# Altium integrated library Analog Devices Data Converters Digital-to-Analog Converters.IntLib: 2231 symbols (part 152 of 181)
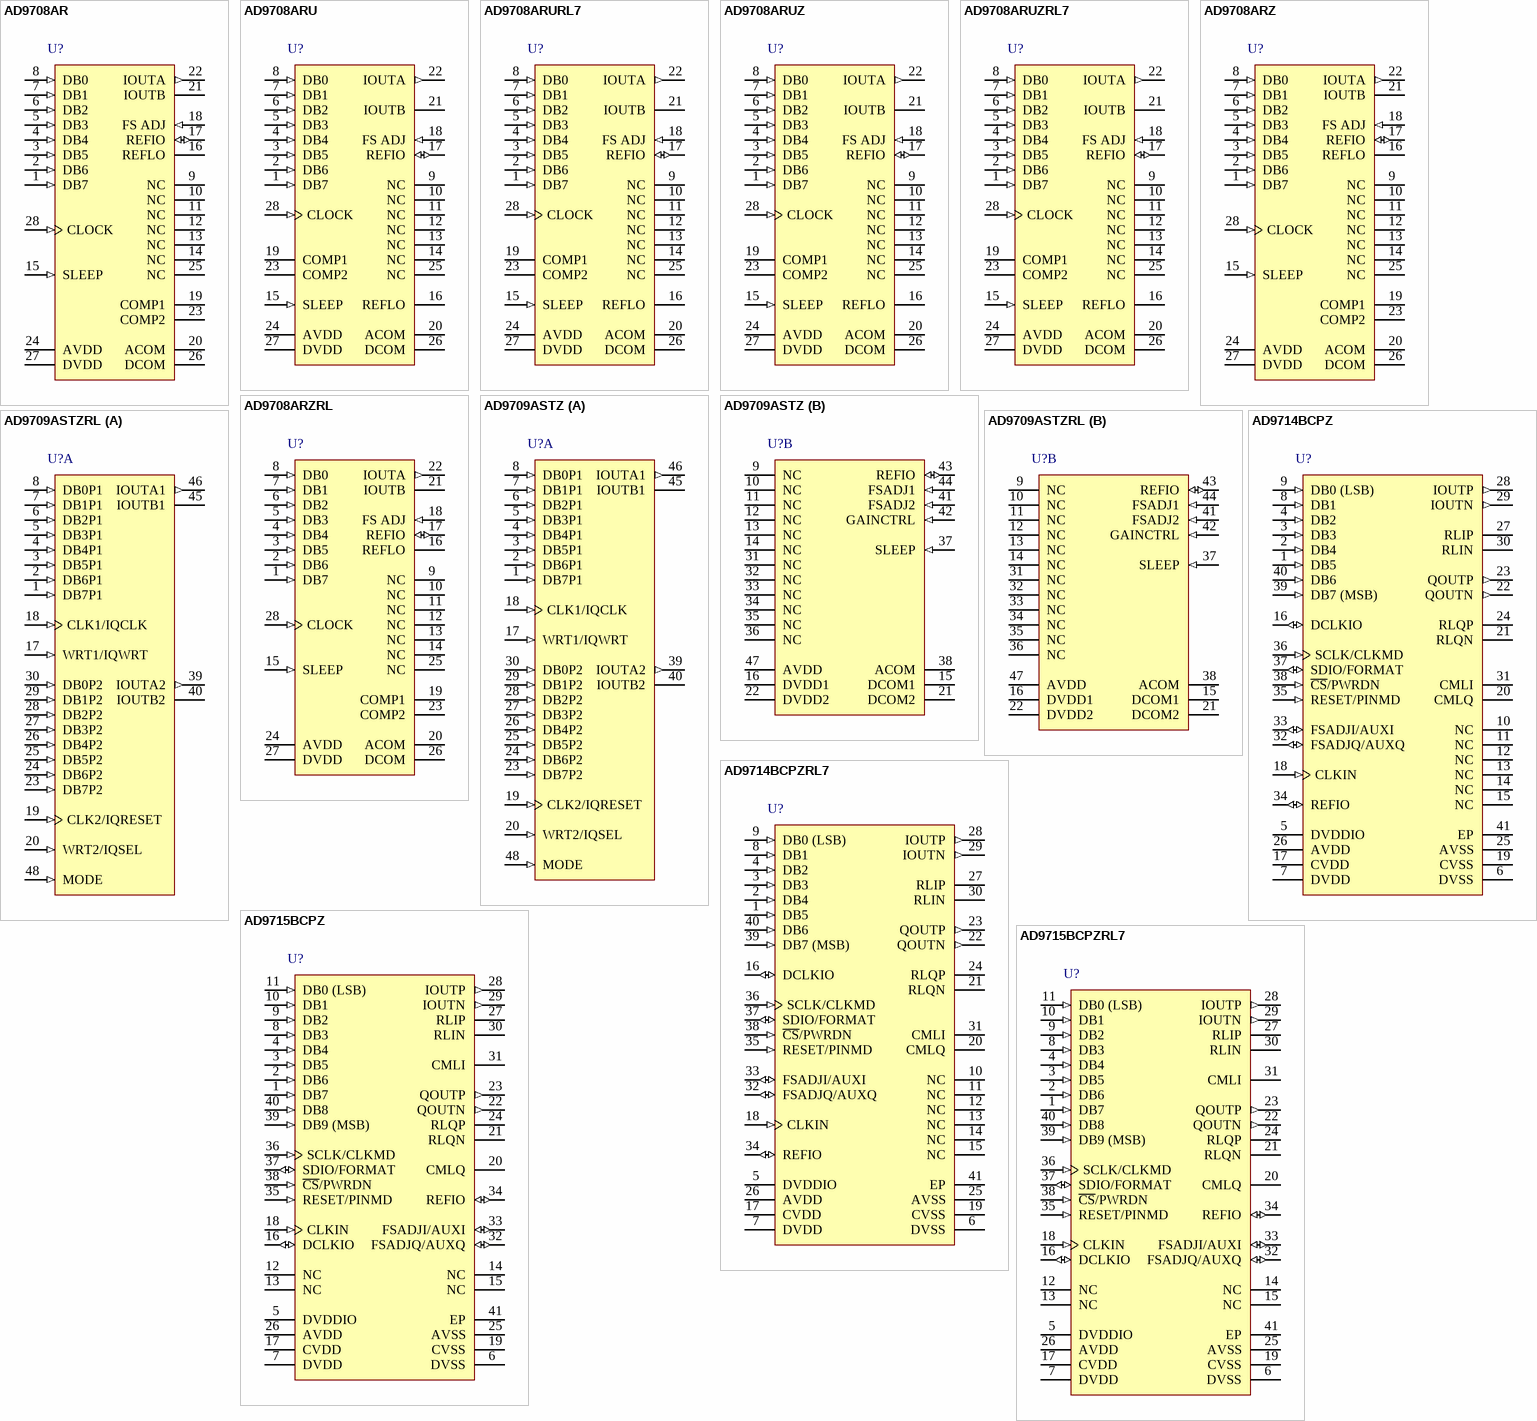
[diagram p265: symbols AD9708AR to AD9715BCPZRL7]

## AD9708ARU
designator U?
Single 8-Bit TxDAC, 100 Msps, -40 to +85 degC, RU-28, Tube; Generic Part Number: AD9708; Manufacturer: Analog Devices; PartNumber: AD9708ARU; # DAC Outputs: 1; Max V+: 5.5V; Op Pwr Diss: 175mW; Resolution (Bits): 8; Settling Time: 35ns; Single Supply: Yes; DatasheetVersion: Rev.B; PackageVersion: 2005; PackageReference: RU-28; PackageDescription: 28-Lead Thin Shrink Small Outline Package [TSSOP]; Supplier 1: Digi-Key; Supplier Part Number 1: AD9708ARU-ND; Supplier 2: Mouser; Supplier Part Number 2: 584-AD9708ARU; Packing: Tube; RoHS: N; Mounting Technology: Surface Mount; Code_JEDEC: MO-153-AE; ComponentLink1Description: Manufacturer URL; ComponentLink1URL: http://www.analog.com/en/index.html; ComponentLink2Description: Datasheet; ComponentLink2URL: http://www.analog.com/static/imported-files/data_sheets/AD9708.pdf; ComponentLink3Description: Package Specification; ComponentLink3URL: http://www.analog.com/static/imported-files/packages/249854663RU_28.pdf; ComponentLink4Description: Product URL; ComponentLink4URL: http://www.analog.com/en/digital-to-analog-converters/da-converters/ad9708/products/product.html
footprint RU-28_N (TSOP, 28-Leads, Body 9.7x4.4mm, Pitch 0.65mm, IPC Medium Density)
footprint RU-28_L (TSOP, 28-Leads, Body 9.7x4.4mm, Pitch 0.65mm, IPC High Density)
footprint RU-28_M (TSOP, 28-Leads, Body 9.7x4.4mm, Pitch 0.65mm, IPC Low Density)
pins: 1 DB7 (in) "Most Significant Data Bit (MSB).", 2 DB6 (in) "Data Bit 6", 3 DB5 (in) "Data Bit 5", 4 DB4 (in) "Data Bit 4", 5 DB3 (in) "Data Bit 3", 6 DB2 (in) "Data Bit 2", 7 DB1 (in) "Data Bit 1", 8 DB0 (in) "Least Significant Data Bit (LSB).", 9 NC "No Internal Connection.", 10 NC "No Internal Connection.", 11 NC "No Internal Connection.", 12 NC "No Internal Connection.", 13 NC "No Internal Connection.", 14 NC "No Internal Connection.", 15 SLEEP (in) "Power-Down Control Input.  Active High.  Contains active pull-down circuit, thus may be left unterminated if not used.", 16 REFLO "Reference Ground when Internal 1.2 V Reference Used.  Connect to AVDD to disable internal reference.", 17 REFIO (io) "Reference Input/Output.  Serves as reference input when internal reference disabled (i.e., Tie REFLO to AVDD). Serves as 1.2 V reference output when internal reference activated (i.e., Tie REFLO to ACOM).  Requires 0.1 uF (See Datasheet)", 18 FS ADJ (in) "Full-Scale Current Output Adjust.", 19 COMP1 "Bandwidth/Noise Reduction Node. Add 0.1 uF to AVDD for optimum performance.", 20 ACOM (power) "Analog Common.", 21 IOUTB "Complementary DAC Current Output. Full-scale current when all data bits are 0s.", 22 IOUTA (out) "DAC Current Output. Full-scale current when all data bits are 1s.", 23 COMP2 "Internal Bias Node for Switch Driver Circuitry.  Decouple to ACOM with 0.1 uF capacitor.", 24 AVDD (power) "Analog Supply Voltage (+2.7 V to +5.5 V).", 25 NC "No Internal Connection.", 26 DCOM (power) "Digital Common.", 27 DVDD (power) "Digital Supply Voltage (+2.7 V to +5.5 V).", 28 CLOCK (in) "Clock Input.  Data latched on positive edge of clock."

## AD9708ARURL7
designator U?
Single 8-Bit TxDAC, 100 Msps, -40 to +85 degC, RU-28, Reel; Generic Part Number: AD9708; Manufacturer: Analog Devices; PartNumber: AD9708ARURL7; # DAC Outputs: 1; Max V+: 5.5V; Op Pwr Diss: 175mW; Resolution (Bits): 8; Settling Time: 35ns; Single Supply: Yes; DatasheetVersion: Rev.B; PackageVersion: 2005; PackageReference: RU-28; PackageDescription: 28-Lead Thin Shrink Small Outline Package [TSSOP]; Supplier 1: Digi-Key; Supplier Part Number 1: AD9708ARURL7-ND; Supplier 2: Mouser; Supplier Part Number 2: 584-AD9708ARUR7; Packing: Reel; RoHS: N; Mounting Technology: Surface Mount; Code_JEDEC: MO-153-AE; ComponentLink1Description: Manufacturer URL; ComponentLink1URL: http://www.analog.com/en/index.html; ComponentLink2Description: Datasheet; ComponentLink2URL: http://www.analog.com/static/imported-files/data_sheets/AD9708.pdf; ComponentLink3Description: Package Specification; ComponentLink3URL: http://www.analog.com/static/imported-files/packages/249854663RU_28.pdf; ComponentLink4Description: Product URL; ComponentLink4URL: http://www.analog.com/en/digital-to-analog-converters/da-converters/ad9708/products/product.html
footprint RU-28_N (TSOP, 28-Leads, Body 9.7x4.4mm, Pitch 0.65mm, IPC Medium Density)
footprint RU-28_L (TSOP, 28-Leads, Body 9.7x4.4mm, Pitch 0.65mm, IPC High Density)
footprint RU-28_M (TSOP, 28-Leads, Body 9.7x4.4mm, Pitch 0.65mm, IPC Low Density)
pins: 1 DB7 (in) "Most Significant Data Bit (MSB).", 2 DB6 (in) "Data Bit 6", 3 DB5 (in) "Data Bit 5", 4 DB4 (in) "Data Bit 4", 5 DB3 (in) "Data Bit 3", 6 DB2 (in) "Data Bit 2", 7 DB1 (in) "Data Bit 1", 8 DB0 (in) "Least Significant Data Bit (LSB).", 9 NC "No Internal Connection.", 10 NC "No Internal Connection.", 11 NC "No Internal Connection.", 12 NC "No Internal Connection.", 13 NC "No Internal Connection.", 14 NC "No Internal Connection.", 15 SLEEP (in) "Power-Down Control Input.  Active High.  Contains active pull-down circuit, thus may be left unterminated if not used.", 16 REFLO "Reference Ground when Internal 1.2 V Reference Used.  Connect to AVDD to disable internal reference.", 17 REFIO (io) "Reference Input/Output.  Serves as reference input when internal reference disabled (i.e., Tie REFLO to AVDD). Serves as 1.2 V reference output when internal reference activated (i.e., Tie REFLO to ACOM).  Requires 0.1 uF (See Datasheet)", 18 FS ADJ (in) "Full-Scale Current Output Adjust.", 19 COMP1 "Bandwidth/Noise Reduction Node. Add 0.1 uF to AVDD for optimum performance.", 20 ACOM (power) "Analog Common.", 21 IOUTB "Complementary DAC Current Output. Full-scale current when all data bits are 0s.", 22 IOUTA (out) "DAC Current Output. Full-scale current when all data bits are 1s.", 23 COMP2 "Internal Bias Node for Switch Driver Circuitry.  Decouple to ACOM with 0.1 uF capacitor.", 24 AVDD (power) "Analog Supply Voltage (+2.7 V to +5.5 V).", 25 NC "No Internal Connection.", 26 DCOM (power) "Digital Common.", 27 DVDD (power) "Digital Supply Voltage (+2.7 V to +5.5 V).", 28 CLOCK (in) "Clock Input.  Data latched on positive edge of clock."

## AD9708ARUZ
designator U?
Single 8-Bit TxDAC, 100 Msps, -40 to +85 degC, RU-28, Pb-Free, Tube; Generic Part Number: AD9708; Manufacturer: Analog Devices; PartNumber: AD9708ARUZ; # DAC Outputs: 1; Max V+: 5.5V; Op Pwr Diss: 175mW; Resolution (Bits): 8; Settling Time: 35ns; Single Supply: Yes; DatasheetVersion: Rev.B; PackageVersion: 2005; PackageReference: RU-28; PackageDescription: 28-Lead Thin Shrink Small Outline Package [TSSOP]; Supplier 1: Digi-Key; Supplier Part Number 1: AD9708ARUZ-ND; Supplier 2: Farnell; Supplier Part Number 2: 2305696; Supplier 3: Newark; Supplier Part Number 3: 84W7488; Supplier 4: Newark; Supplier Part Number 4: 19M8944; Supplier 5: Mouser; Supplier Part Number 5: 584-AD9708ARUZ; Packing: Tube; RoHS: Y; Mounting Technology: Surface Mount; Code_JEDEC: MO-153-AE; ComponentLink1Description: Manufacturer URL; ComponentLink1URL: http://www.analog.com/en/index.html; ComponentLink2Description: Datasheet; ComponentLink2URL: http://www.analog.com/static/imported-files/data_sheets/AD9708.pdf; ComponentLink3Description: Package Specification; ComponentLink3URL: http://www.analog.com/static/imported-files/packages/249854663RU_28.pdf; ComponentLink4Description: Product URL; ComponentLink4URL: http://www.analog.com/en/digital-to-analog-converters/da-converters/ad9708/products/product.html
footprint RU-28_N (TSOP, 28-Leads, Body 9.7x4.4mm, Pitch 0.65mm, IPC Medium Density)
footprint RU-28_L (TSOP, 28-Leads, Body 9.7x4.4mm, Pitch 0.65mm, IPC High Density)
footprint RU-28_M (TSOP, 28-Leads, Body 9.7x4.4mm, Pitch 0.65mm, IPC Low Density)
pins: 1 DB7 (in) "Most Significant Data Bit (MSB).", 2 DB6 (in) "Data Bit 6", 3 DB5 (in) "Data Bit 5", 4 DB4 (in) "Data Bit 4", 5 DB3 (in) "Data Bit 3", 6 DB2 (in) "Data Bit 2", 7 DB1 (in) "Data Bit 1", 8 DB0 (in) "Least Significant Data Bit (LSB).", 9 NC "No Internal Connection.", 10 NC "No Internal Connection.", 11 NC "No Internal Connection.", 12 NC "No Internal Connection.", 13 NC "No Internal Connection.", 14 NC "No Internal Connection.", 15 SLEEP (in) "Power-Down Control Input.  Active High.  Contains active pull-down circuit, thus may be left unterminated if not used.", 16 REFLO "Reference Ground when Internal 1.2 V Reference Used.  Connect to AVDD to disable internal reference.", 17 REFIO (io) "Reference Input/Output.  Serves as reference input when internal reference disabled (i.e., Tie REFLO to AVDD). Serves as 1.2 V reference output when internal reference activated (i.e., Tie REFLO to ACOM).  Requires 0.1 uF (See Datasheet)", 18 FS ADJ (in) "Full-Scale Current Output Adjust.", 19 COMP1 "Bandwidth/Noise Reduction Node. Add 0.1 uF to AVDD for optimum performance.", 20 ACOM (power) "Analog Common.", 21 IOUTB "Complementary DAC Current Output. Full-scale current when all data bits are 0s.", 22 IOUTA (out) "DAC Current Output. Full-scale current when all data bits are 1s.", 23 COMP2 "Internal Bias Node for Switch Driver Circuitry.  Decouple to ACOM with 0.1 uF capacitor.", 24 AVDD (power) "Analog Supply Voltage (+2.7 V to +5.5 V).", 25 NC "No Internal Connection.", 26 DCOM (power) "Digital Common.", 27 DVDD (power) "Digital Supply Voltage (+2.7 V to +5.5 V).", 28 CLOCK (in) "Clock Input.  Data latched on positive edge of clock."

## AD9708ARUZRL7
designator U?
Single 8-Bit TxDAC, 100 Msps, -40 to +85 degC, RU-28, Pb-Free, Reel; Generic Part Number: AD9708; Manufacturer: Analog Devices; PartNumber: AD9708ARUZRL7; # DAC Outputs: 1; Max V+: 5.5V; Op Pwr Diss: 175mW; Resolution (Bits): 8; Settling Time: 35ns; Single Supply: Yes; DatasheetVersion: Rev.B; PackageVersion: 2005; PackageReference: RU-28; PackageDescription: 28-Lead Thin Shrink Small Outline Package [TSSOP]; Supplier 1: Digi-Key; Supplier Part Number 1: AD9708ARUZRL7-ND; Supplier 2: Mouser; Supplier Part Number 2: 584-AD9708ARUZR7; Packing: Reel; RoHS: Y; Mounting Technology: Surface Mount; Code_JEDEC: MO-153-AE; ComponentLink1Description: Manufacturer URL; ComponentLink1URL: http://www.analog.com/en/index.html; ComponentLink2Description: Datasheet; ComponentLink2URL: http://www.analog.com/static/imported-files/data_sheets/AD9708.pdf; ComponentLink3Description: Package Specification; ComponentLink3URL: http://www.analog.com/static/imported-files/packages/249854663RU_28.pdf; ComponentLink4Description: Product URL; ComponentLink4URL: http://www.analog.com/en/digital-to-analog-converters/da-converters/ad9708/products/product.html
footprint RU-28_N (TSOP, 28-Leads, Body 9.7x4.4mm, Pitch 0.65mm, IPC Medium Density)
footprint RU-28_L (TSOP, 28-Leads, Body 9.7x4.4mm, Pitch 0.65mm, IPC High Density)
footprint RU-28_M (TSOP, 28-Leads, Body 9.7x4.4mm, Pitch 0.65mm, IPC Low Density)
pins: 1 DB7 (in) "Most Significant Data Bit (MSB).", 2 DB6 (in) "Data Bit 6", 3 DB5 (in) "Data Bit 5", 4 DB4 (in) "Data Bit 4", 5 DB3 (in) "Data Bit 3", 6 DB2 (in) "Data Bit 2", 7 DB1 (in) "Data Bit 1", 8 DB0 (in) "Least Significant Data Bit (LSB).", 9 NC "No Internal Connection.", 10 NC "No Internal Connection.", 11 NC "No Internal Connection.", 12 NC "No Internal Connection.", 13 NC "No Internal Connection.", 14 NC "No Internal Connection.", 15 SLEEP (in) "Power-Down Control Input.  Active High.  Contains active pull-down circuit, thus may be left unterminated if not used.", 16 REFLO "Reference Ground when Internal 1.2 V Reference Used.  Connect to AVDD to disable internal reference.", 17 REFIO (io) "Reference Input/Output.  Serves as reference input when internal reference disabled (i.e., Tie REFLO to AVDD). Serves as 1.2 V reference output when internal reference activated (i.e., Tie REFLO to ACOM).  Requires 0.1 uF (See Datasheet)", 18 FS ADJ (in) "Full-Scale Current Output Adjust.", 19 COMP1 "Bandwidth/Noise Reduction Node. Add 0.1 uF to AVDD for optimum performance.", 20 ACOM (power) "Analog Common.", 21 IOUTB "Complementary DAC Current Output. Full-scale current when all data bits are 0s.", 22 IOUTA (out) "DAC Current Output. Full-scale current when all data bits are 1s.", 23 COMP2 "Internal Bias Node for Switch Driver Circuitry.  Decouple to ACOM with 0.1 uF capacitor.", 24 AVDD (power) "Analog Supply Voltage (+2.7 V to +5.5 V).", 25 NC "No Internal Connection.", 26 DCOM (power) "Digital Common.", 27 DVDD (power) "Digital Supply Voltage (+2.7 V to +5.5 V).", 28 CLOCK (in) "Clock Input.  Data latched on positive edge of clock."

## AD9708ARZ
designator U?
Single 8-Bit TxDAC, 100 Msps, -40 to +85 degC, RW-28, Pb-Free, Tube; Generic Part Number: AD9708; Manufacturer: Analog Devices; PartNumber: AD9708ARZ; # DAC Outputs: 1; Max V+: 5.5V; Op Pwr Diss: 175mW; Resolution (Bits): 8; Settling Time: 35ns; Single Supply: Yes; DatasheetVersion: Rev.B; PackageVersion: 060706-A; PackageReference: RW-28; PackageDescription: 28-Lead Standard Small Outline Package [SOIC_W]; Supplier 1: Digi-Key; Supplier Part Number 1: AD9708ARZ-ND; Supplier 2: Newark; Supplier Part Number 2: 59K7319; Supplier 3: Mouser; Supplier Part Number 3: 584-AD9708ARZ; Packing: Tube; RoHS: Y; Mounting Technology: Surface Mount; Code_JEDEC: MS-013-AE; ComponentLink1Description: Manufacturer URL; ComponentLink1URL: http://www.analog.com/en/index.html; ComponentLink2Description: Datasheet; ComponentLink2URL: http://www.analog.com/static/imported-files/data_sheets/AD9708.pdf; ComponentLink3Description: Product URL; ComponentLink3URL: http://www.analog.com/en/digital-to-analog-converters/da-converters/ad9708/products/product.html
footprint RW-28_N (SOIC, 28-Leads, Body 17.9x7.5mm, Pitch 1.27mm, IPC Medium Density)
footprint RW-28_L (SOIC, 28-Leads, Body 17.9x7.5mm, Pitch 1.27mm, IPC High Density)
footprint RW-28_M (SOIC, 28-Leads, Body 17.9x7.5mm, Pitch 1.27mm, IPC Low Density)
pins: 1 DB7 (in) "Most Significant Data Bit (MSB).", 2 DB6 (in) "Data Bit 6.", 3 DB5 (in) "Data Bit 5.", 4 DB4 (in) "Data Bit 4.", 5 DB3 (in) "Data Bit 3.", 6 DB2 (in) "Data Bit 2.", 7 DB1 (in) "Data Bit 1.", 8 DB0 (in) "Least Significant Data Bit (LSB).", 9 NC "No Internal Connection.", 10 NC "No Internal Connection.", 11 NC "No Internal Connection.", 12 NC "No Internal Connection.", 13 NC "No Internal Connection.", 14 NC "No Internal Connection.", 15 SLEEP (in) "Power-Down Control Input.  Active High.  Contains active pull-down circuit, thus may be left unterminated if not used.", 16 REFLO "Reference Ground when Internal 1.2 V Reference Used.  Connect to AVDD to disable internal reference.", 17 REFIO (io) "Reference Input/Output.  Serves as reference input when internal reference disabled (i.e., Tie REFLO to AVDD). Serves as 1.2 V reference output when internal reference activated (i.e., Tie REFLO to ACOM).  Requires 0.1 uF (See Datasheet)", 18 FS ADJ (in) "Full-Scale Current Output Adjust.", 19 COMP1 "Bandwidth/Noise Reduction Node. Add 0.1 uF to AVDD for optimum performance.", 20 ACOM (power) "Analog Common.", 21 IOUTB "Complementary DAC Current Output. Full-scale current when all data bits are 0s.", 22 IOUTA (out) "DAC Current Output. Full-scale current when all data bits are 1s.", 23 COMP2 "Internal Bias Node for Switch Driver Circuitry.  Decouple to ACOM with 0.1 uF capacitor.", 24 AVDD (power) "Analog Supply Voltage (+2.7 V to +5.5 V).", 25 NC "No Internal Connection.", 26 DCOM (power) "Digital Common.", 27 DVDD (power) "Digital Supply Voltage (+2.7 V to +5.5 V).", 28 CLOCK (in) "Clock Input.  Data latched on positive edge of clock."

## AD9708ARZRL
designator U?
Single 8-Bit TxDAC, 100 Msps, -40 to +85 degC, RW-28, Pb-Free, Reel; Generic Part Number: AD9708; Manufacturer: Analog Devices; PartNumber: AD9708ARZRL; # DAC Outputs: 1; Max V+: 5.5V; Op Pwr Diss: 175mW; Resolution (Bits): 8; Settling Time: 35ns; Single Supply: Yes; DatasheetVersion: Rev.B; PackageVersion: 060706-A; PackageReference: RW-28; PackageDescription: 28-Lead Standard Small Outline Package [SOIC_W]; Supplier 1: Digi-Key; Supplier Part Number 1: AD9708ARZRL-ND; Supplier 2: Newark; Supplier Part Number 2: 12M9235; Supplier 3: Mouser; Supplier Part Number 3: 584-AD9708ARZR; Packing: Reel; RoHS: Y; Mounting Technology: Surface Mount; Code_JEDEC: MS-013-AE; ComponentLink1Description: Manufacturer URL; ComponentLink1URL: http://www.analog.com/en/index.html; ComponentLink2Description: Datasheet; ComponentLink2URL: http://www.analog.com/static/imported-files/data_sheets/AD9708.pdf; ComponentLink3Description: Product URL; ComponentLink3URL: http://www.analog.com/en/digital-to-analog-converters/da-converters/ad9708/products/product.html
footprint RW-28_N (SOIC, 28-Leads, Body 17.9x7.5mm, Pitch 1.27mm, IPC Medium Density)
footprint RW-28_L (SOIC, 28-Leads, Body 17.9x7.5mm, Pitch 1.27mm, IPC High Density)
footprint RW-28_M (SOIC, 28-Leads, Body 17.9x7.5mm, Pitch 1.27mm, IPC Low Density)
pins: 1 DB7 (in) "Most Significant Data Bit (MSB).", 2 DB6 (in) "Data Bit 6.", 3 DB5 (in) "Data Bit 5.", 4 DB4 (in) "Data Bit 4.", 5 DB3 (in) "Data Bit 3.", 6 DB2 (in) "Data Bit 2.", 7 DB1 (in) "Data Bit 1.", 8 DB0 (in) "Least Significant Data Bit (LSB).", 9 NC "No Internal Connection.", 10 NC "No Internal Connection.", 11 NC "No Internal Connection.", 12 NC "No Internal Connection.", 13 NC "No Internal Connection.", 14 NC "No Internal Connection.", 15 SLEEP (in) "Power-Down Control Input.  Active High.  Contains active pull-down circuit, thus may be left unterminated if not used.", 16 REFLO "Reference Ground when Internal 1.2 V Reference Used.  Connect to AVDD to disable internal reference.", 17 REFIO (io) "Reference Input/Output.  Serves as reference input when internal reference disabled (i.e., Tie REFLO to AVDD). Serves as 1.2 V reference output when internal reference activated (i.e., Tie REFLO to ACOM).  Requires 0.1 uF (See Datasheet)", 18 FS ADJ (in) "Full-Scale Current Output Adjust.", 19 COMP1 "Bandwidth/Noise Reduction Node. Add 0.1 uF to AVDD for optimum performance.", 20 ACOM (power) "Analog Common.", 21 IOUTB "Complementary DAC Current Output. Full-scale current when all data bits are 0s.", 22 IOUTA (out) "DAC Current Output. Full-scale current when all data bits are 1s.", 23 COMP2 "Internal Bias Node for Switch Driver Circuitry.  Decouple to ACOM with 0.1 uF capacitor.", 24 AVDD (power) "Analog Supply Voltage (+2.7 V to +5.5 V).", 25 NC "No Internal Connection.", 26 DCOM (power) "Digital Common.", 27 DVDD (power) "Digital Supply Voltage (+2.7 V to +5.5 V).", 28 CLOCK (in) "Clock Input.  Data latched on positive edge of clock."

## AD9709ASTZ
designator U?
Dual 8-Bit TxDAC+, 125 Msps, -40 to +85 degC, ST-48, Pb-Free, Tray; Generic Part Number: AD9709; Manufacturer: Analog Devices; PartNumber: AD9709ASTZ; # DAC Outputs: 2; Max V+: 5.5V; Op Pwr Diss: 450mW; Resolution (Bits): 8; Settling Time: 35ns; Single Supply: Yes; DatasheetVersion: Rev.B; PackageVersion: revA; PackageReference: ST-48; PackageDescription: 48-Pin Thin Quad Flat Pack 0.5 mm Pitch; Supplier 1: Digi-Key; Supplier Part Number 1: AD9709ASTZ-ND; Supplier 2: Newark; Supplier Part Number 2: 59K7321; Supplier 3: Mouser; Supplier Part Number 3: 584-AD9709ASTZ; Packing: Tray; RoHS: Y; Mounting Technology: Surface Mount; ComponentLink1Description: Manufacturer URL; ComponentLink1URL: http://www.analog.com/en/index.html; ComponentLink2Description: Datasheet; ComponentLink2URL: http://www.analog.com/static/imported-files/data_sheets/AD9709.pdf; ComponentLink3Description: Package Specification; ComponentLink3URL: http://www.analog.com/static/imported-files/packages/PKG_PDF/LQFP%28ST%29/ST_48.pdf; ComponentLink4Description: Product URL; ComponentLink4URL: http://www.analog.com/en/digital-to-analog-converters/da-converters/ad9709/products/product.html
footprint ST-48_N (Thin QFP, 48-Leads, Body 7x7mm, Pitch 0.5mm, IPC Medium Density)
footprint ST-48_L (Thin QFP, 48-Leads, Body 7x7mm, Pitch 0.5mm, IPC High Density)
footprint ST-48_M (Thin QFP, 48-Leads, Body 7x7mm, Pitch 0.5mm, IPC Low Density)
part A pins: 1 DB7P1 (in) "Data Bit Pin (Port 1)", 2 DB6P1 (in) "Data Bit Pin (Port 1)", 3 DB5P1 (in) "Data Bit Pin (Port 1)", 4 DB4P1 (in) "Data Bit Pin (Port 1)", 5 DB3P1 (in) "Data Bit Pin (Port 1)", 6 DB2P1 (in) "Data Bit Pin (Port 1)", 7 DB1P1 (in) "Data Bit Pin (Port 1)", 8 DB0P1 (in) "Data Bit Pin (Port 1)", 17 WRT1/IQWRT (in) "Input Write Signal for Port 1 (IQWRT in Interleaving Mode)", 18 CLK1/IQCLK (in) "Clock Input for DAC1 (IQCLK in Interleaving Mode)", 19 CLK2/IQRESET (in) "Clock Input for DAC2 (IQRESET in Interleaving Mode)", 20 WRT2/IQSEL (in) "Input Write Signal for Port 2 (IQSEL in Interleaving Mode)", 23 DB7P2 (in) "Data Bit Pin (Port 2)", 24 DB6P2 (in) "Data Bit Pin (Port 2)", 25 DB5P2 (in) "Data Bit Pin (Port 2)", 26 DB4P2 (in) "Data Bit Pin (Port 2)", 27 DB3P2 (in) "Data Bit Pin (Port 2)", 28 DB2P2 (in) "Data Bit Pin (Port 2)", 29 DB1P2 (in) "Data Bit Pin (Port 2)", 30 DB0P2 (in) "Data Bit Pin (Port 2)", 39 IOUTA2 (out) "Port 2 Differential DAC Current Output", 40 IOUTB2 "Port 2 Differential DAC Current Output", 45 IOUTB1 "Port 1 Differential DAC Current Output", 46 IOUTA1 (out) "Port 1 Differential DAC Current Output", 48 MODE (in) "Mode Select (1 = dual port, 0 = interleaved)"
part B pins: 9 NC "No Connection", 10 NC "No Connection", 11 NC "No Connection", 12 NC "No Connection", 13 NC "No Connection", 14 NC "No Connection", 15 DCOM1 (power) "Digital Common", 16 DVDD1 (power) "Digital Supply Voltage", 21 DCOM2 (power) "Digital Common", 22 DVDD2 (power) "Digital Supply Voltage", 31 NC "No Connection", 32 NC "No Connection", 33 NC "No Connection", 34 NC "No Connection", 35 NC "No Connection", 36 NC "No Connection", 37 SLEEP (in) "Power-Down Control Input", 38 ACOM (power) "Analog Common", 41 FSADJ2 (in) "Full-Scale Current Output Adjust for DAC2", 42 GAINCTRL (in) "Master/Slave Resistor Control Mode.", 43 REFIO (io) "Reference Input/Output", 44 FSADJ1 (in) "Full-Scale Current Output Adjust for DAC1", 47 AVDD (power) "Analog Supply Voltage"

## AD9709ASTZRL
designator U?
Dual 8-Bit TxDAC+, 125 Msps, -40 to +85 degC, ST-48, Pb-Free, Reel; Generic Part Number: AD9709; Manufacturer: Analog Devices; PartNumber: AD9709ASTZRL; # DAC Outputs: 2; Max V+: 5.5V; Op Pwr Diss: 450mW; Resolution (Bits): 8; Settling Time: 35ns; Single Supply: Yes; DatasheetVersion: Rev.B; PackageVersion: revA; PackageReference: ST-48; PackageDescription: 48-Pin Thin Quad Flat Pack 0.5 mm Pitch; Supplier 1: Digi-Key; Supplier Part Number 1: AD9709ASTZRL-ND; Supplier 2: Mouser; Supplier Part Number 2: 584-AD9709ASTZR; Packing: Reel; RoHS: Y; Mounting Technology: Surface Mount; ComponentLink1Description: Manufacturer URL; ComponentLink1URL: http://www.analog.com/en/index.html; ComponentLink2Description: Datasheet; ComponentLink2URL: http://www.analog.com/static/imported-files/data_sheets/AD9709.pdf; ComponentLink3Description: Package Specification; ComponentLink3URL: http://www.analog.com/static/imported-files/packages/PKG_PDF/LQFP%28ST%29/ST_48.pdf; ComponentLink4Description: Product URL; ComponentLink4URL: http://www.analog.com/en/digital-to-analog-converters/da-converters/ad9709/products/product.html
footprint ST-48_N (Thin QFP, 48-Leads, Body 7x7mm, Pitch 0.5mm, IPC Medium Density)
footprint ST-48_L (Thin QFP, 48-Leads, Body 7x7mm, Pitch 0.5mm, IPC High Density)
footprint ST-48_M (Thin QFP, 48-Leads, Body 7x7mm, Pitch 0.5mm, IPC Low Density)
part A pins: 1 DB7P1 (in) "Data Bit Pin (Port 1)", 2 DB6P1 (in) "Data Bit Pin (Port 1)", 3 DB5P1 (in) "Data Bit Pin (Port 1)", 4 DB4P1 (in) "Data Bit Pin (Port 1)", 5 DB3P1 (in) "Data Bit Pin (Port 1)", 6 DB2P1 (in) "Data Bit Pin (Port 1)", 7 DB1P1 (in) "Data Bit Pin (Port 1)", 8 DB0P1 (in) "Data Bit Pin (Port 1)", 17 WRT1/IQWRT (in) "Input Write Signal for Port 1 (IQWRT in Interleaving Mode)", 18 CLK1/IQCLK (in) "Clock Input for DAC1 (IQCLK in Interleaving Mode)", 19 CLK2/IQRESET (in) "Clock Input for DAC2 (IQRESET in Interleaving Mode)", 20 WRT2/IQSEL (in) "Input Write Signal for Port 2 (IQSEL in Interleaving Mode)", 23 DB7P2 (in) "Data Bit Pin (Port 2)", 24 DB6P2 (in) "Data Bit Pin (Port 2)", 25 DB5P2 (in) "Data Bit Pin (Port 2)", 26 DB4P2 (in) "Data Bit Pin (Port 2)", 27 DB3P2 (in) "Data Bit Pin (Port 2)", 28 DB2P2 (in) "Data Bit Pin (Port 2)", 29 DB1P2 (in) "Data Bit Pin (Port 2)", 30 DB0P2 (in) "Data Bit Pin (Port 2)", 39 IOUTA2 (out) "Port 2 Differential DAC Current Output", 40 IOUTB2 "Port 2 Differential DAC Current Output", 45 IOUTB1 "Port 1 Differential DAC Current Output", 46 IOUTA1 (out) "Port 1 Differential DAC Current Output", 48 MODE (in) "Mode Select (1 = dual port, 0 = interleaved)"
part B pins: 9 NC "No Connection", 10 NC "No Connection", 11 NC "No Connection", 12 NC "No Connection", 13 NC "No Connection", 14 NC "No Connection", 15 DCOM1 (power) "Digital Common", 16 DVDD1 (power) "Digital Supply Voltage", 21 DCOM2 (power) "Digital Common", 22 DVDD2 (power) "Digital Supply Voltage", 31 NC "No Connection", 32 NC "No Connection", 33 NC "No Connection", 34 NC "No Connection", 35 NC "No Connection", 36 NC "No Connection", 37 SLEEP (in) "Power-Down Control Input", 38 ACOM (power) "Analog Common", 41 FSADJ2 (in) "Full-Scale Current Output Adjust for DAC2", 42 GAINCTRL (in) "Master/Slave Resistor Control Mode.", 43 REFIO (io) "Reference Input/Output", 44 FSADJ1 (in) "Full-Scale Current Output Adjust for DAC1", 47 AVDD (power) "Analog Supply Voltage"

## AD9714BCPZ
designator U?
Dual 8-Bit Low Power TxDAC, 0 to +70 degC, CP-40-1, Pb-Free, Tray; Generic Part Number: AD9714; Manufacturer: Analog Devices; PartNumber: AD9714BCPZ; # DAC Outputs: 2; Max V+: 3.3V; Resolution (Bits): 8; Single Supply: Yes; DatasheetVersion: Rev.A; PackageVersion: Oct-2006; PackageReference: CP-40-1; PackageDescription: 40-Pin Lead Frame Chip Scale Package [LFCSP_VQ] Very Thin Quad; Supplier 1: Digi-Key; Supplier Part Number 1: AD9714BCPZ-ND; Supplier 2: Newark; Supplier Part Number 2: 07P9000; Supplier 3: Mouser; Supplier Part Number 3: 584-AD9714BCPZ; Packing: Tray; RoHS: Y; Mounting Technology: Surface Mount; Code_JEDEC: MO-220-VJJD-2; ComponentLink1Description: Manufacturer URL; ComponentLink1URL: http://www.analog.com/en/index.html; ComponentLink2Description: Datasheet; ComponentLink2URL: http://www.analog.com/static/imported-files/data_sheets/AD9714_9715_9716_9717.pdf; ComponentLink3Description: Package Specification; ComponentLink3URL: http://www.analog.com/static/imported-files/packages/PKG_PDF/LFCSP(CP)/CP_40_1.pdf; ComponentLink4Description: Product URL; ComponentLink4URL: http://www.analog.com/en/digital-to-analog-converters/da-converters/ad9714/products/product.html
footprint CP-40-1_N (QFN, 40-Leads, Body 6x6mm, Pitch 0.5mm, Thermal Pad 4.3x4.3mm, IPC Medium Density)
footprint CP-40-1_L (QFN, 40-Leads, Body 6x6mm, Pitch 0.5mm, Thermal Pad 4.3x4.3mm, IPC High Density)
footprint CP-40-1_M (QFN, 40-Leads, Body 6x6mm, Pitch 0.5mm, Thermal Pad 4.3x4.3mm, IPC Low Density)
pins: 1 DB5 (in) "Digital Input.", 2 DB4 (in) "Digital Input.", 3 DB3 (in) "Digital Input.", 4 DB2 (in) "Digital Input.", 5 DVDDIO (power) "Digital I/O Supply Voltage (1.8 V to 3.3 V Nominal).", 6 DVSS (power) "Digital Common.", 7 DVDD (power) "Digital Core Supply Voltage (1.8 V). Strap DVDD to DVDDIO at 1.8 V. If DVDDIO > 1.8 V, bypass DVDD with a 1.0 uF capacitor; however, do not otherwise connect it. The LDO should not drive external loads.", 8 DB1 (in) "Digital Input.", 9 DB0 (LSB) (in) "Digital Input (LSB).", 10 NC "No Connect. This pin is not connected to the chip.", 11 NC "No Connect. This pin is not connected to the chip.", 12 NC "No Connect. This pin is not connected to the chip.", 13 NC "No Connect. This pin is not connected to the chip.", 14 NC "No Connect. This pin is not connected to the chip.", 15 NC "No Connect. This pin is not connected to the chip.", 16 DCLKIO (io) "Data Input/Output Clock. Clock used to qualify input data.", 17 CVDD (power) "Sampling Clock Supply Voltage (1.8 V to 3.3 V). CVDD must be >= DVDD.", 18 CLKIN (in) "LVCMOS Sampling Clock Input.", 19 CVSS (power) "Sampling Clock Supply Voltage Common.", 20 CMLQ "Q DAC Output Common-Mode Level. When the internal on chip (QRCML) is enabled, this pin is connected to the on-chip QRCML resistor. It is recommended to leave this pin unconnected. When the internal on chip (QRCML) is (See Datasheet)", 21 RLQN "Load Resistor (500  ohm) to the CMLQ Pin. For the internal load resistor to be used, this pin should be tied to QOUTN externally.", 22 QOUTN (out) "Complementary Q DAC Current Output. Full-scale current is sourced when all data bits are 0s.", 23 QOUTP (out) "Q DAC Current Output. Full-scale current is sourced when all data bits are 1s.", 24 RLQP "Load Resistor (500 ohm) to the CMLQ Pin. For the internal load resistor to be used, this pin should be tied to QOUTP externally.", 25 AVSS (power) "Analog Common.", 26 AVDD (power) "Analog Supply Voltage (1.8 V to 3.3 V).", 27 RLIP "Load Resistor (500  ohm) to the CMLI Pin. For the internal load resistor to be used, this pin should be tied to IOUTP externally.", 28 IOUTP (out) "I DAC Current Output. Full-scale current is sourced when all data bits are 1s.", 29 IOUTN (out) "Complementary I DAC Current Output. Full-scale current is sourced when all data bits are 0s.", 30 RLIN "Load Resistor (500  ohm) to the CMLI Pin. For the internal load resistor to be used, this pin should be tied to IOUTN externally.", 31 CMLI "I DAC Output Common-Mode Level. When the internal on chip (IRCML) is enabled, this pin is connected to the on-chip IRCML resistor. It is recommended to leave this pin unconnected. When the internal on chip (IRCML) is (See Datasheet)", 32 FSADJQ/AUXQ (io) "Full-Scale Current Output Adjust (FSADJQ). When the internal on chip (QRSET) is disabled, this pin is the full- scale current output adjust for Q DAC and must be connected to AVSS through a resistor (see the Theory of (See Datasheet)", 33 FSADJI/AUXI (io) "Full-Scale Current Output Adjust (FSADJI). When the internal on chip (IRSET) is disabled, this pin is full-scale current output adjust for I DAC and must be connected to AVSS through a resistor (see the Theory of Operation (See Datasheet)", 34 REFIO (io) "Reference Input/Output. Serves as a reference input when the internal reference is disabled. Provides a 1.0 V reference output when in internal reference mode (a 0.1 uF capacitor to AVSS is required).", 35 RESET/PINMD (in) "This pin defines the operation mode of the part. A logic low (pull-down to DVSS) sets the part in SPI mode. Pulse RESET high to reset the SPI registers to their default values. A logic high (pull-up to DVDDIO) puts the (See Datasheet)", 36 SCLK/CLKMD (in) "Clock Input for Serial Port (SCLK). In SPI mode, this pin is the clock input for the serial port. Clock Mode (CLKMD). In pin mode, CLKMD determines the phase of the internal retiming clock. When DCLKIO = CLKIN, tie it to 0. (See Datasheet)", 37 SDIO/FORMAT (io) "Serial Port Input/Output (SDIO). In SPI mode, this pin is the bidirectional data line for serial port. Format Pin (FORMAT). In pin mode, FORMAT determines the data format of digital data. A logic low (pull- down to DVSS) (See Datasheet)", 38 ~{CS}/PWRDN (in) "Active Low Chip Select (CS). In SPI mode, this pin serves as the active low chip select. In pin mode, a logic high (pull-up to DVDDIO) powers down the device, except for the SPI port. Power-Down (PWRDN). In pin mode, PWRDN (See Datasheet)", 39 DB7 (MSB) (in) "Digital Input (MSB).", 40 DB6 (in) "Digital Input.", 41 EP (power) "The exposed pad is connected to AVSS and should be soldered to the ground plane. Exposed metal at the package corners is connected to this pad."

## AD9714BCPZRL7
designator U?
Dual 8-Bit Low Power TxDAC Digital-to-Analog Converter, 0 to +70 degC, CP-40-1, Pb-Free, Reel; Generic Part Number: AD9714; Manufacturer: Analog Devices; PartNumber: AD9714BCPZRL7; # DAC Outputs: 2; Max V+: 3.3V; Resolution (Bits): 8; Single Supply: Yes; DatasheetVersion: Rev.A; PackageVersion: Oct-2006; PackageReference: CP-40-1; PackageDescription: 40-Pin Lead Frame Chip Scale Package [LFCSP_VQ] Very Thin Quad; Supplier 1: Digi-Key; Supplier Part Number 1: AD9714BCPZRL7-ND; Supplier 2: Mouser; Supplier Part Number 2: 584-AD9714BCPZR7; Packing: Reel; RoHS: Y; Mounting Technology: Surface Mount; Code_JEDEC: MO-220-VJJD-2; ComponentLink1Description: Manufacturer URL; ComponentLink1URL: http://www.analog.com/en/index.html; ComponentLink2Description: Datasheet; ComponentLink2URL: http://www.analog.com/static/imported-files/data_sheets/AD9714_9715_9716_9717.pdf; ComponentLink3Description: Package Specification; ComponentLink3URL: http://www.analog.com/static/imported-files/packages/PKG_PDF/LFCSP(CP)/CP_40_1.pdf; ComponentLink4Description: Product URL; ComponentLink4URL: http://www.analog.com/en/digital-to-analog-converters/da-converters/ad9714/products/product.html
footprint CP-40-1_N (QFN, 40-Leads, Body 6x6mm, Pitch 0.5mm, Thermal Pad 4.3x4.3mm, IPC Medium Density)
footprint CP-40-1_L (QFN, 40-Leads, Body 6x6mm, Pitch 0.5mm, Thermal Pad 4.3x4.3mm, IPC High Density)
footprint CP-40-1_M (QFN, 40-Leads, Body 6x6mm, Pitch 0.5mm, Thermal Pad 4.3x4.3mm, IPC Low Density)
pins: 1 DB5 (in) "Digital Input.", 2 DB4 (in) "Digital Input.", 3 DB3 (in) "Digital Input.", 4 DB2 (in) "Digital Input.", 5 DVDDIO (power) "Digital I/O Supply Voltage (1.8 V to 3.3 V Nominal).", 6 DVSS (power) "Digital Common.", 7 DVDD (power) "Digital Core Supply Voltage (1.8 V). Strap DVDD to DVDDIO at 1.8 V. If DVDDIO > 1.8 V, bypass DVDD with a 1.0 uF capacitor; however, do not otherwise connect it. The LDO should not drive external loads.", 8 DB1 (in) "Digital Input.", 9 DB0 (LSB) (in) "Digital Input (LSB).", 10 NC "No Connect. This pin is not connected to the chip.", 11 NC "No Connect. This pin is not connected to the chip.", 12 NC "No Connect. This pin is not connected to the chip.", 13 NC "No Connect. This pin is not connected to the chip.", 14 NC "No Connect. This pin is not connected to the chip.", 15 NC "No Connect. This pin is not connected to the chip.", 16 DCLKIO (io) "Data Input/Output Clock. Clock used to qualify input data.", 17 CVDD (power) "Sampling Clock Supply Voltage (1.8 V to 3.3 V). CVDD must be >= DVDD.", 18 CLKIN (in) "LVCMOS Sampling Clock Input.", 19 CVSS (power) "Sampling Clock Supply Voltage Common.", 20 CMLQ "Q DAC Output Common-Mode Level. When the internal on chip (QRCML) is enabled, this pin is connected to the on-chip QRCML resistor. It is recommended to leave this pin unconnected. When the internal on chip (QRCML) is (See Datasheet)", 21 RLQN "Load Resistor (500  ohm) to the CMLQ Pin. For the internal load resistor to be used, this pin should be tied to QOUTN externally.", 22 QOUTN (out) "Complementary Q DAC Current Output. Full-scale current is sourced when all data bits are 0s.", 23 QOUTP (out) "Q DAC Current Output. Full-scale current is sourced when all data bits are 1s.", 24 RLQP "Load Resistor (500 ohm) to the CMLQ Pin. For the internal load resistor to be used, this pin should be tied to QOUTP externally.", 25 AVSS (power) "Analog Common.", 26 AVDD (power) "Analog Supply Voltage (1.8 V to 3.3 V).", 27 RLIP "Load Resistor (500  ohm) to the CMLI Pin. For the internal load resistor to be used, this pin should be tied to IOUTP externally.", 28 IOUTP (out) "I DAC Current Output. Full-scale current is sourced when all data bits are 1s.", 29 IOUTN (out) "Complementary I DAC Current Output. Full-scale current is sourced when all data bits are 0s.", 30 RLIN "Load Resistor (500  ohm) to the CMLI Pin. For the internal load resistor to be used, this pin should be tied to IOUTN externally.", 31 CMLI "I DAC Output Common-Mode Level. When the internal on chip (IRCML) is enabled, this pin is connected to the on-chip IRCML resistor. It is recommended to leave this pin unconnected. When the internal on chip (IRCML) is (See Datasheet)", 32 FSADJQ/AUXQ (io) "Full-Scale Current Output Adjust (FSADJQ). When the internal on chip (QRSET) is disabled, this pin is the full- scale current output adjust for Q DAC and must be connected to AVSS through a resistor (see the Theory of (See Datasheet)", 33 FSADJI/AUXI (io) "Full-Scale Current Output Adjust (FSADJI). When the internal on chip (IRSET) is disabled, this pin is full-scale current output adjust for I DAC and must be connected to AVSS through a resistor (see the Theory of Operation (See Datasheet)", 34 REFIO (io) "Reference Input/Output. Serves as a reference input when the internal reference is disabled. Provides a 1.0 V reference output when in internal reference mode (a 0.1 uF capacitor to AVSS is required).", 35 RESET/PINMD (in) "This pin defines the operation mode of the part. A logic low (pull-down to DVSS) sets the part in SPI mode. Pulse RESET high to reset the SPI registers to their default values. A logic high (pull-up to DVDDIO) puts the (See Datasheet)", 36 SCLK/CLKMD (in) "Clock Input for Serial Port (SCLK). In SPI mode, this pin is the clock input for the serial port. Clock Mode (CLKMD). In pin mode, CLKMD determines the phase of the internal retiming clock. When DCLKIO = CLKIN, tie it to 0. (See Datasheet)", 37 SDIO/FORMAT (io) "Serial Port Input/Output (SDIO). In SPI mode, this pin is the bidirectional data line for serial port. Format Pin (FORMAT). In pin mode, FORMAT determines the data format of digital data. A logic low (pull- down to DVSS) (See Datasheet)", 38 ~{CS}/PWRDN (in) "Active Low Chip Select (CS). In SPI mode, this pin serves as the active low chip select. In pin mode, a logic high (pull-up to DVDDIO) powers down the device, except for the SPI port. Power-Down (PWRDN). In pin mode, PWRDN (See Datasheet)", 39 DB7 (MSB) (in) "Digital Input (MSB).", 40 DB6 (in) "Digital Input.", 41 EP (power) "The exposed pad is connected to AVSS and should be soldered to the ground plane. Exposed metal at the package corners is connected to this pad."

## AD9715BCPZ
designator U?
Dual 10-Bit Low Power TxDAC Digital-to-Analog Converter, 0 to +70 degC, CP-40-1, Pb-Free, Tray; Generic Part Number: AD9715; Manufacturer: Analog Devices; PartNumber: AD9715BCPZ; # DAC Outputs: 2; Max V+: 3.3V; Resolution (Bits): 10; Single Supply: Yes; DatasheetVersion: Rev.A; PackageVersion: Oct-2006; PackageReference: CP-40-1; PackageDescription: 40-Pin Lead Frame Chip Scale Package [LFCSP_VQ] Very Thin Quad; Supplier 1: Digi-Key; Supplier Part Number 1: AD9715BCPZ-ND; Supplier 2: Newark; Supplier Part Number 2: 07P9003; Supplier 3: Mouser; Supplier Part Number 3: 584-AD9715BCPZ; Packing: Tray; RoHS: Y; Mounting Technology: Surface Mount; Code_JEDEC: MO-220-VJJD-2; ComponentLink1Description: Manufacturer URL; ComponentLink1URL: http://www.analog.com/en/index.html; ComponentLink2Description: Datasheet; ComponentLink2URL: http://www.analog.com/static/imported-files/data_sheets/AD9714_9715_9716_9717.pdf; ComponentLink3Description: Package Specification; ComponentLink3URL: http://www.analog.com/static/imported-files/packages/PKG_PDF/LFCSP(CP)/CP_40_1.pdf; ComponentLink4Description: Product URL; ComponentLink4URL: http://www.analog.com/en/digital-to-analog-converters/da-converters/ad9715/products/product.html
footprint CP-40-1_N (QFN, 40-Leads, Body 6x6mm, Pitch 0.5mm, Thermal Pad 4.3x4.3mm, IPC Medium Density)
footprint CP-40-1_L (QFN, 40-Leads, Body 6x6mm, Pitch 0.5mm, Thermal Pad 4.3x4.3mm, IPC High Density)
footprint CP-40-1_M (QFN, 40-Leads, Body 6x6mm, Pitch 0.5mm, Thermal Pad 4.3x4.3mm, IPC Low Density)
pins: 1 DB7 (in) "Digital Input.", 2 DB6 (in) "Digital Input.", 3 DB5 (in) "Digital Input.", 4 DB4 (in) "Digital Input.", 5 DVDDIO (power) "Digital I/O Supply Voltage (1.8 V to 3.3 V Nominal).", 6 DVSS (power) "Digital Common.", 7 DVDD (power) "Digital Core Supply Voltage (1.8 V). Strap DVDD to DVDDIO at 1.8 V. If DVDDIO > 1.8 V, bypass DVDD with a 1.0 uF capacitor; however, do not otherwise connect it. The LDO should not drive external loads.", 8 DB3 (in) "Digital Input.", 9 DB2 (in) "Digital Input.", 10 DB1 (in) "Digital Input.", 11 DB0 (LSB) (in) "Digital Input (LSB).", 12 NC "No Connect. These pins are not connected to the chip.", 13 NC "No Connect. These pins are not connected to the chip.", 14 NC "No Connect. These pins are not connected to the chip.", 15 NC "No Connect. These pins are not connected to the chip.", 16 DCLKIO (io) "Data Input/Output Clock. Clock used to qualify input data.", 17 CVDD (power) "Sampling Clock Supply Voltage (1.8 V to 3.3 V). CVDD must be >= DVDD.", 18 CLKIN (in) "LVCMOS Sampling Clock Input.", 19 CVSS (power) "Sampling Clock Supply Voltage Common.", 20 CMLQ "Q DAC Output Common-Mode Level. When the internal on chip (QRCML) is enabled, this pin is connected to the on-chip QRCML resistor. It is recommended to leave this pin unconnected. When the internal on chip (QRCML) is (See Datasheet)", 21 RLQN "Load Resistor (500 ohm) to the CMLQ Pin. For the internal load resistor to be used, this pin should be tied to QOUTN externally.", 22 QOUTN (out) "Complementary Q DAC Current Output. Full-scale current is sourced when all data bits are 0s.", 23 QOUTP (out) "Q DAC Current Output. Full-scale current is sourced when all data bits are 1s.", 24 RLQP "Load Resistor (500 ohm) to the CMLQ Pin. For the internal load resistor to be used, this pin should be tied to QOUTP externally.", 25 AVSS (power) "Analog Common.", 26 AVDD (power) "Analog Supply Voltage (1.8 V to 3.3 V).", 27 RLIP "Load Resistor (500 ohm) to the CMLI Pin. For the internal load resistor to be used, this pin should be tied to IOUTP externally.", 28 IOUTP (out) "I DAC Current Output. Full-scale current is sourced when all data bits are 1s.", 29 IOUTN (out) "Complementary I DAC Current Output. Full-scale current is sourced when all data bits are 0s.", 30 RLIN "Load Resistor (500 ohm) to the CMLI Pin. For the internal load resistor to be used, this pin should be tied to IOUTN externally.", 31 CMLI "I DAC Output Common-Mode Level. When the internal on chip (IRCML) is enabled, this pin is connected to the on-chip IRCML resistor. It is recommended to leave this pin unconnected. When the internal on chip (IRCML) is (See Datasheet)", 32 FSADJQ/AUXQ (io) "Full-Scale Current Output Adjust (FSADJQ). When the internal on chip (QRSET) is disabled, this pin is the full- scale current output adjust for Q DAC and must be connected to AVSS through a resistor (see the Theory of (See Datasheet)", 33 FSADJI/AUXI (io) "Full-Scale Current Output Adjust (FSADJI). When the internal on chip (IRSET) is disabled, this pin is the full- scale current output adjust for I DAC and must be connected to AVSS through a resistor (see the Theory of (See Datasheet)", 34 REFIO (io) "Reference Input/Output. Serves as a reference input when the internal reference is disabled. Provides a 1.0 V reference output when in internal reference mode (a 0.1 uF capacitor to AVSS is required).", 35 RESET/PINMD (in) "This pin defines the operation mode of the part. A logic low (pull-down to DVSS) sets the part in SPI mode. Pulse RESET high to reset the SPI registers to their default values. A logic high (pull-up to DVDDIO) puts the (See Datasheet)", 36 SCLK/CLKMD (in) "Clock Input for Serial Port (SCLK). In SPI mode, this pin is the clock input for the serial port. Clock Mode (CLKMD). In pin mode, CLKMD determines the phase of the internal retiming clock. When DCLKIO = CLKIN, tie it to 0. (See Datasheet)", 37 SDIO/FORMAT (io) "Serial Port Input/Output (SDIO). In SPI mode, this pin is the bidirectional data line for the serial port. Format Pin (FORMAT). In pin mode, FORMAT determines the data format of digital data. A logic low (pull-down to DVSS) (See Datasheet)", 38 ~{CS}/PWRDN (in) "Active Low Chip Select (C\S\). In SPI mode, this pin serves as the active low chip select. Power-Down (PWRDN). In pin mode, a logic high (pull-up to DVDDIO) powers down the device, except for the SPI port.", 39 DB9 (MSB) (in) "Digital Input (MSB).", 40 DB8 (in) "Digital Input.", 41 EP (power) "The exposed pad is connected to AVSS and should be soldered to the ground plane. Exposed metal at the package corners is connected to this pad."